# EAGLE library part AT45DB011D (library snow)
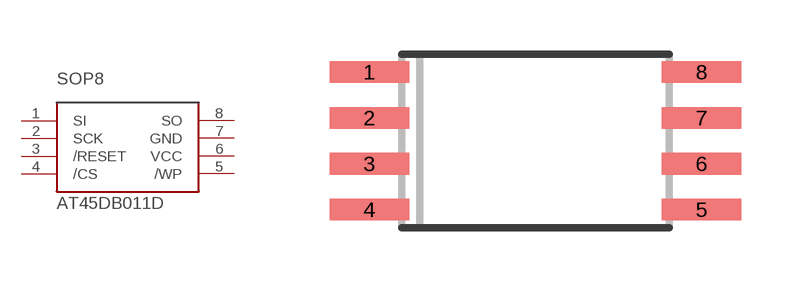
[diagram p4: symbol with the pads of SOP8W; footprint SOP8W]

Designator prefix SOP8

## AT45DB011DSOP8W  [SOP8W]
1  SI  in
2  SCK  in
3  /RESET  in
4  /CS  in
5  /WP  in
6  VCC  pwr
7  GND  pwr
8  SO  out

## Footprint SOP8W (pad centres in mm)
smd 2.2 x 0.6: 1 -4.6,1.905; 2 -4.6,0.635; 3 -4.6,-0.635; 4 -4.6,-1.905; 5 4.6,-1.905; 6 4.6,-0.635; 7 4.6,0.635; 8 4.6,1.905